# EAGLE library part SSI2130 (library SoundSemiconductor)
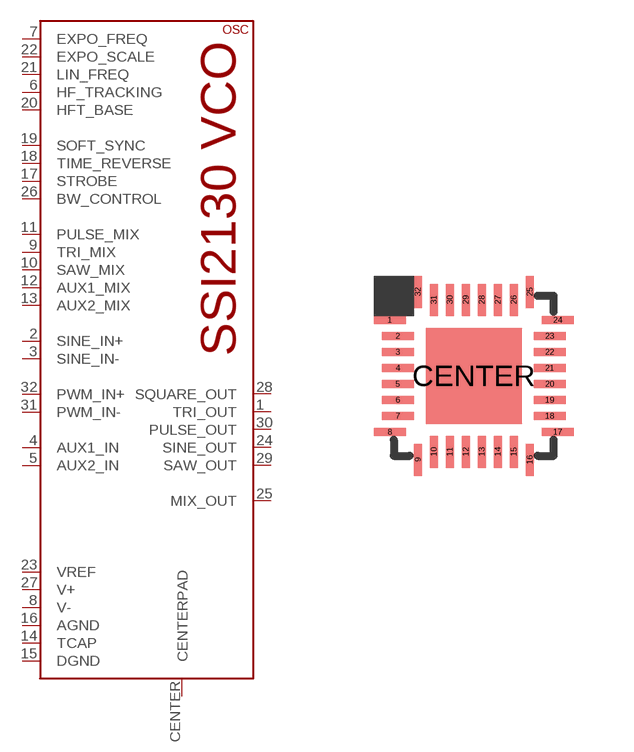
[diagram p0: symbol with the pads of QFN32_4X4; footprint QFN32_4X4]

Designator prefix OSC

## SSI2130  [QFN32_4X4]
1  TRI_OUT
2  SINE_IN+
3  SINE_IN-
4  AUX1_IN
5  AUX2_IN
6  HF_TRACKING
7  EXPO_FREQ
8  V-
9  TRI_MIX
10  SAW_MIX
11  PULSE_MIX
12  AUX1_MIX
13  AUX2_MIX
14  TCAP
15  DGND
16  AGND
17  STROBE
18  TIME_REVERSE
19  SOFT_SYNC
20  HFT_BASE
21  LIN_FREQ
22  EXPO_SCALE
23  VREF
24  SINE_OUT
25  MIX_OUT
26  BW_CONTROL
27  V+
28  SQUARE_OUT
29  SAW_OUT
30  PULSE_OUT
31  PWM_IN-
32  PWM_IN+
CENTER  CENTERPAD

## Footprint QFN32_4X4 (pad centres in mm)
smd 0.8 x 0.2: 1 -2.1,1.4; 2 -1.9,1; 3 -1.9,0.6; 4 -1.9,0.2; 5 -1.9,-0.2; 6 -1.9,-0.6; 7 -1.9,-1; 8 -2.1,-1.4; 17 2.1,-1.4; 18 1.9,-1; 19 1.9,-0.6; 20 1.9,-0.2; 21 1.9,0.2; 22 1.9,0.6; 23 1.9,1; 24 2.1,1.4
smd 0.2 x 0.8: 9 -1.4,-2.1; 10 -1,-1.9; 11 -0.6,-1.9; 12 -0.2,-1.9; 13 0.2,-1.9; 14 0.6,-1.9; 15 1,-1.9; 16 1.4,-2.1; 25 1.4,2.1; 26 1,1.9; 27 0.6,1.9; 28 0.2,1.9; 29 -0.2,1.9; 30 -0.6,1.9; 31 -1,1.9; 32 -1.4,2.1
smd 2.4 x 2.4: CENTER 0,0